# Altium schematic symbol library Schematic_Library_TM.SchLib: 17 symbols
Pins are listed as number, name and electrical type; pins without a type are passive.

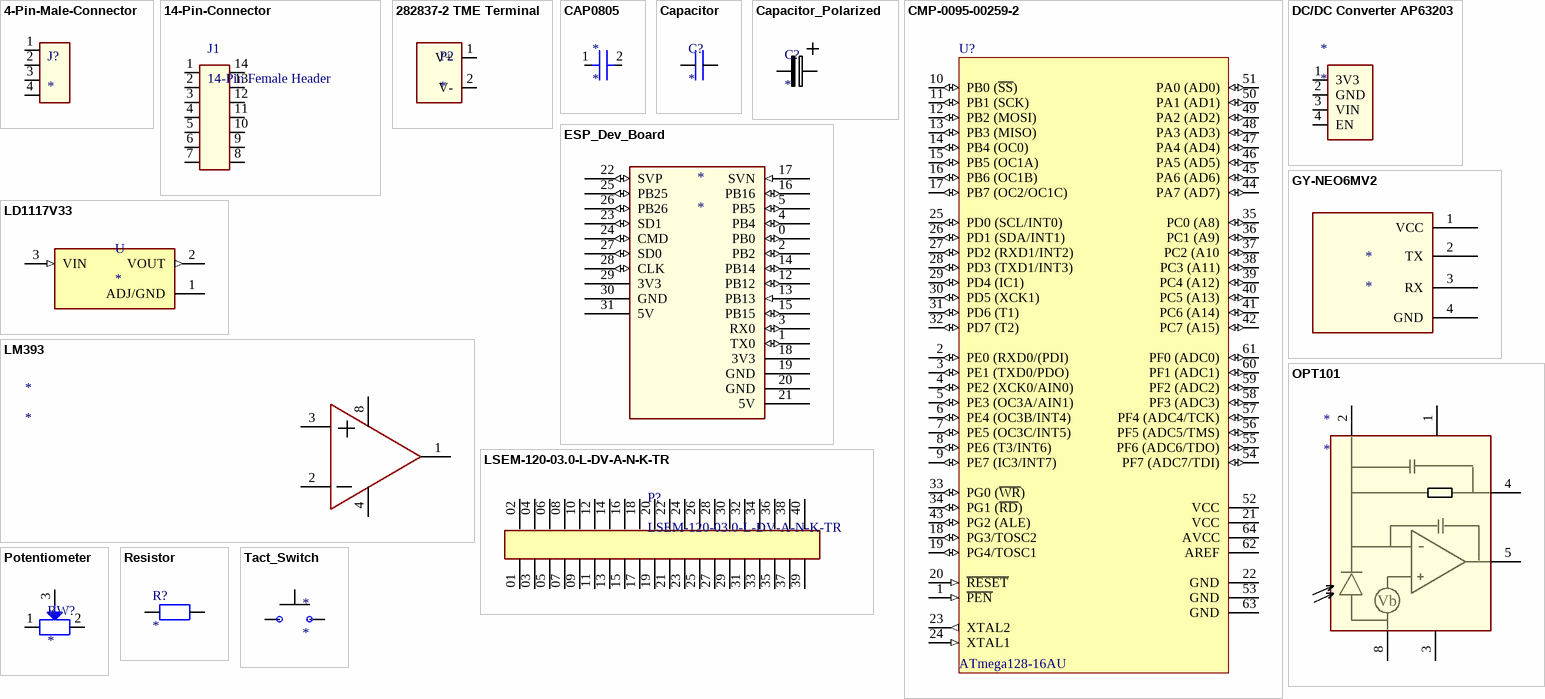
[diagram p0: symbols 4-Pin-Male-Connector to Tact_Switch]

## 4-Pin-Male-Connector
designator J?
pins: 1 10 (power), 2 8 (power), 3 7 (power), 4 9 (power)

## 14-Pin-Connector
designator J1, comment 14-Pin Female Header
footprint SAMTEC_14_PIN
pins: 1, 2, 3, 4, 5, 6, 7, 8, 9, 10, 11, 12, 13, 14

## 282837-2 TME Terminal
designator P2
2 - Terminal Connector
footprint 282837-2 TME Connector
pins: 1 V+ (power), 2 V- (power)

## CAP0805
designator *
footprint CAP_0805
pins: 1 (power), 2 (power)

## Capacitor
designator C?
Manufacturer: *; Part Number: *; Value: *; ComponentLink1Description: HelpURL; ComponentLink1URL: *; Rated Voltage: *; Tolerance: *; Vendor: *; Vendor number: *
footprint CAP_VJ_0805_MD (Chip Capacitor, 2-Leads, 0805)
footprint CAP_IPC_0805_133A (Chip Capacitor, 2-Leads, 0805)
pins: 1, 2

## Capacitor_Polarized
designator C?
Manufacturer: *; Part Number: *; Value: *; ComponentLink1Description: HelpURL; ComponentLink1URL: *; Rated Voltage: *; Tolerance: *; Vendor: *; Vendor Number: *
footprint VJ_TANTALUM_D
footprint VJ_Tantalum_A
pins: 1, 2

## CMP-0095-00259-2
designator U?, comment ATmega128-16AU
8-bit AVR Microcontroller, 4.5-5.5V, 128KB Flash, 4KB EEPROM, 4KB SRAM, 64-pin TQFP, Industrial Grade (-40°C to 85°C); ComponentLink3URL: http://www.atmel.com/dyn/resources/prod_documents/2467S.pdf; PackageVersion: revC, Oct-2010; ComponentLink2URL: http://www.atmel.com/dyn/resources/prod_documents/doc2467.pdf; ComponentLink2Description: ATmega128(L) Datasheet; ComponentLink1Description: Manufacturer URL; PackageReference: 64A; DatasheetVersion: revX, Jun-2011; ComponentLink3Description: ATmega128(L) Summary; ComponentLink1URL: http://www.atmel.com/; RevisionNote: PackageVersion updated. URLs added.; Code_JEDEC: MS-026-AEB; PackageDescription: 64-Pin Plastic Thin Profile Quad Flat Pack, 14 x 14 x 1.0 mm Body, 0.8 mm Pitch (TQFP)
footprint 64A_M (Thin QFP, 64-Leads, Body 14x14mm, Pitch 0.8mm, IPC Low Density)
footprint 64A_L (Thin QFP, 64-Leads, Body 14x14mm, Pitch 0.8mm, IPC High Density)
footprint 64A_N (Thin QFP, 64-Leads, Body 14x14mm, Pitch 0.8mm, IPC Medium Density)
pins: 1 ~{PEN} (in), 2 PE0 (RXD0/(PDI) (io), 3 PE1 (TXD0/PDO) (io), 4 PE2 (XCK0/AIN0) (io), 5 PE3 (OC3A/AIN1) (io), 6 PE4 (OC3B/INT4) (io), 7 PE5 (OC3C/INT5) (io), 8 PE6 (T3/INT6) (io), 9 PE7 (IC3/INT7) (io), 10 PB0 (~{SS}) (io), 11 PB1 (SCK) (io), 12 PB2 (MOSI) (io), 13 PB3 (MISO) (io), 14 PB4 (OC0) (io), 15 PB5 (OC1A) (io), 16 PB6 (OC1B) (io), 17 PB7 (OC2/OC1C) (io), 18 PG3/TOSC2 (io), 19 PG4/TOSC1 (io), 20 ~{RESET} (in), 21 VCC (power), 22 GND (power), 23 XTAL2 (out), 24 XTAL1 (in), 25 PD0 (SCL/INT0) (io), 26 PD1 (SDA/INT1) (io), 27 PD2 (RXD1/INT2) (io), 28 PD3 (TXD1/INT3) (io), 29 PD4 (IC1) (io), 30 PD5 (XCK1) (io), 31 PD6 (T1) (io), 32 PD7 (T2) (io), 33 PG0 (~{WR}) (io), 34 PG1 (~{RD}) (io), 35 PC0 (A8) (io), 36 PC1 (A9) (io), 37 PC2 (A10 (io), 38 PC3 (A11) (io), 39 PC4 (A12) (io), 40 PC5 (A13) (io), 41 PC6 (A14) (io), 42 PC7 (A15) (io), 43 PG2 (ALE) (io), 44 PA7 (AD7) (io), 45 PA6 (AD6) (io), 46 PA5 (AD5) (io), 47 PA4 (AD4) (io), 48 PA3 (AD3) (io), 49 PA2 (AD2) (io), 50 PA1 (AD1) (io), 51 PA0 (AD0) (io), 52 VCC (power), 53 GND (power), 54 PF7 (ADC7/TDI) (io), 55 PF6 (ADC6/TDO) (io), 56 PF5 (ADC5/TMS) (io), 57 PF4 (ADC4/TCK) (io), 58 PF3 (ADC3) (io), 59 PF2 (ADC2) (io), 60 PF1 (ADC1) (io), 61 PF0 (ADC0) (io), 62 AREF, 63 GND (power), 64 AVCC (power)

## DC/DC Converter AP63203
designator *
pins: 1 3V3 (power), 2 GND (power), 3 VIN (power), 4 EN (power)

## ESP_Dev_Board
designator *
ESP Dev Board with lcd
footprint ESP_Dev_Board
pins: 0 PB0 (io), 1 TX0 (io), 2 PB2 (io), 3 RX0 (io), 4 PB4 (io), 5 PB5 (io), 12 PB12 (io), 13 PB13 (in), 14 PB14 (io), 15 PB15 (io), 16 PB16 (io), 17 SVN (in), 18 3V3 (power), 19 GND (power), 20 GND (power), 21 5V (power), 22 SVP (io), 23 SD1 (io), 24 CMD (io), 25 PB25 (io), 26 PB26 (io), 27 SD0 (io), 28 CLK (io), 29 3V3 (power), 30 GND (power), 31 5V (power)

## GY-NEO6MV2
designator *
GPS Module
pins: 1 VCC, 2 TX, 3 RX, 4 GND

## LD1117V33
designator U
LD1117V33 - Linear Voltage Regulator 800mA
footprint LD1117V33 (LD1117V33 - TO220)
pins: 1 ADJ/GND, 2 VOUT (out), 3 VIN (in)

## LM393
designator *
LLM393 - Comparator
pins: 1 OUT, 2 14, 3, 4 VSS, 8 16

## LSEM-120-03.0-L-DV-A-N-K-TR
designator P?
Board Connector, 40 Contact(s), 2 Row(s), Hermaphroditic, Straight, 0.032 inch Pitch, Surface Mount Terminal, Locking, Black Insulator, Socket; Manufacturer: Samtec; Option: General Purpose; Board Mounting Option: PEG; Contact Pattern: RECTANGULAR; Contact Style: BELLOWED TYPE; Filter Feature: No; Mating Information: MULTIPLE MATING PARTS AVAILABLE; Number Of Connectors: 1; Number Of PCB Rows: 2; Polarization Key: POLARIZED HOUSING; Rated Current (Signal): 1.8A; Number of Contacts: 40; Body Breadth: 0.196inch; Body Depth: 0.175inch; Body Length: 0.803inch; PCB Contact Row Spacing: 3.7084mm; Plating Thickness: 10uin; Reference Standard: UL; Reliability: COMMERCIAL; Supplier: Farnell; Supplier Part Number: 2433813; Manufacturer Part Number: LSEM-120-03.0-L-DV-A-N-K-TR; RoHS: Yes; Category: Connectors; Stock: 2; Mounting Technology: Board; Contact Material: Bronze; Contact Finish - Mating: GOLD (10) OVER NICKEL (50); Contact Finish - Termination: Matte Tin (Sn) - with Nickel (Ni) barrier; Insulation Color: Black; Insulation Material: Polymer; Min Operating Temperature: -55°C; Max Operating Temperature: 125°C; Connector Type: BOARD CONNECTOR; JESD-609 Code: e3; Body/Shell Style: SOCKET; Contact Gender: Hermaphroditic; Mixed Contacts: No; Mounting Style: STRAIGHT; Number of Rows Loaded: 2; PCB Contact Pattern: RECTANGULAR; Termination: SMD/SMT; Mating Contact Pitch: 0.032inch; Mounting Option 1: LOCKING; Terminal Pitch: 0.8mm; DIN Conformance: No; IEC Conformance: No; MIL Conformance: No; Reach SVHC Compliant: Yes; RoHS Compliant: Yes; ComponentLink1URL: https://datasheet.ciiva.com:443/pdfs/VipMasterIC/IC/SAMI/SAMI-S-A0002821514/SAMI-S-A0002821514-1.pdf?src-supplier=IHS+Markit; ComponentLink1Description: https://datasheet.ciiva.com:443/pdfs/VipMasterIC/IC/SAMI/SAMI-S-A0002821514/SAMI-S-A0002821514-1.pdf?src-supplier=IHS+Markit; ComponentLink2URL: http://www.farnell.com/datasheets/2000264.pdf?src-supplier=Farnell; ComponentLink2Description: http://www.farnell.com/datasheets/2000264.pdf?src-supplier=Farnell; ComponentLink3URL: http://suddendocs.samtec.com/catalog_english/lsem.pdf?src-supplier=Digikey; ComponentLink3Description: http://suddendocs.samtec.com/catalog_english/lsem.pdf?src-supplier=Digikey; ComponentLink4URL: http://suddendocs.samtec.com/prints/lsem-1xx-xx.x-x-dv-a-x-xx-tr-mkt.pdf?src-supplier=Digikey; ComponentLink4Description: http://suddendocs.samtec.com/prints/lsem-1xx-xx.x-x-dv-a-x-xx-tr-mkt.pdf?src-supplier=Digikey; ComponentLink5URL: https://datasheet.octopart.com/LSEM-120-03.0-L-DV-A-N-K-TR-Samtec-datasheet-62107125.pdf?src-supplier=Farnell; ComponentLink5Description: https://datasheet.octopart.com/LSEM-120-03.0-L-DV-A-N-K-TR-Samtec-datasheet-62107125.pdf?src-supplier=Farnell; ComponentLink6URL: http://www.farnell.com/datasheets/2000264.pdf?src-supplier=Element14; ComponentLink6Description: http://www.farnell.com/datasheets/2000264.pdf?src-supplier=Element14; ComponentLink7URL: http://www.farnell.com/datasheets/1838600.pdf?src-supplier=Element14; ComponentLink7Description: http://www.farnell.com/datasheets/1838600.pdf?src-supplier=Element14; ComponentLink8URL: https://datasheet.octopart.com/LSEM-120-03.0-L-DV-A-N-K-TR-Samtec-datasheet-165835521.pdf?src-supplier=Toby+Electronics; ComponentLink8Description: https://datasheet.octopart.com/LSEM-120-03.0-L-DV-A-N-K-TR-Samtec-datasheet-165835521.pdf?src-supplier=Toby+Electronics; ComponentLink9URL: https://datasheet.octopart.com/LSEM-120-03.0-L-DV-A-N-K-TR-Samtec-datasheet-151554329.pdf?src-supplier=Sager+Electronics; ComponentLink9Description: https://datasheet.octopart.com/LSEM-120-03.0-L-DV-A-N-K-TR-Samtec-datasheet-151554329.pdf?src-supplier=Sager+Electronics; ComponentLink10URL: https://datasheet.octopart.com/LSEM-120-03.0-L-DV-A-N-K-TR-Samtec-datasheet-97104290.pdf?src-supplier=Samtec; ComponentLink10Description: https://datasheet.octopart.com/LSEM-120-03.0-L-DV-A-N-K-TR-Samtec-datasheet-97104290.pdf?src-supplier=Samtec
footprint SAMTEC_LSEM-120-03.0-X-DV-A-N
pins: 01, 02, 03, 04, 05, 06, 07, 08, 09, 10, 11, 12, 13, 14, 15, 16, 17, 18, 19, 20, 21, 22, 23, 24, 25, 26, 27, 28, 29, 30, 31, 32, 33, 34, 35, 36, 37, 38, 39, 40

## OPT101
designator *
Photodiode Module
footprint OPT101
pins: 1 17, 2 17, 3 17, 4 17, 5 17, 8 17
text: Vb

## Potentiometer
designator RW?
footprint Potentiometer
pins: 1 4 (power), 2 5 (power), 3 6 (power)

## Resistor
designator R?
Manufacturer: *; Part Number: *; Value: *; ComponentLink1Description: HelpURL; ComponentLink1URL: *
footprint RES_VJ_0402_MD (Chip Resistor, 2-Leads, 0402, Medium Density)
footprint RES_VJ_0603_MD (Chip Resistor, 2-Leads, 0603, Medium Density)
footprint RES_VJ_1005 (Chip Resistor, 2-Leads, 1005, Medium Density)
pins: 1, 2

## Tact_Switch
designator *
footprint Tact_Switch
pins: 1 PIN, 2 PIN